# Altium footprint library ALTIUM_LAB07.PcbLib: 1 footprints
Each footprint in its own frame and in the unit in brackets; x right, y up, seen from the top. Pads: shape width x height; smd on the part's side, far side on the other; paste and mask are expansions set on the pad; w line width, h text height; cw(c..) or ccw(c..) is an arc to the next point about the centre after c.
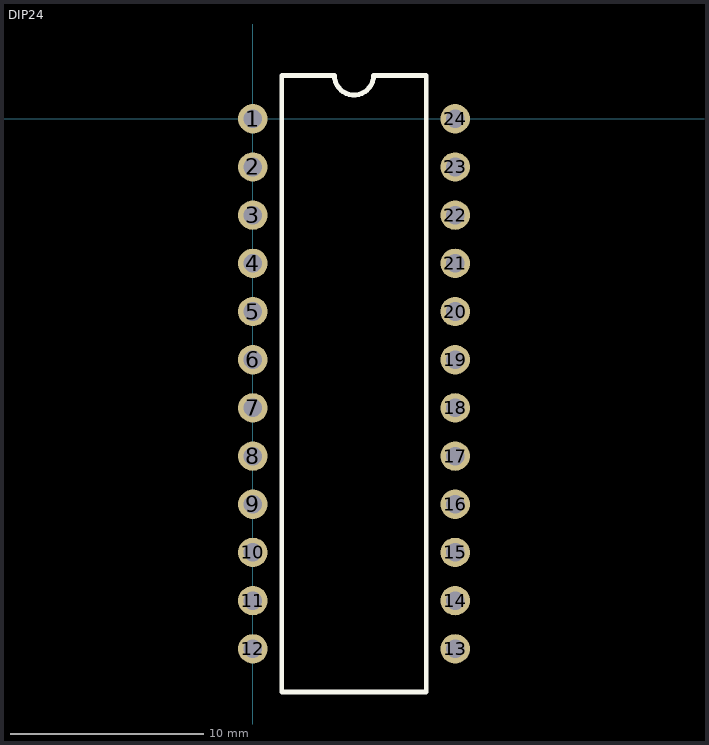
[diagram p0: the footprint, top view; thin cyan lines are the x and y axes]

## DIP24 [mil]
pads (24):
  round 60 hole 38: 1(0,0) 2(0,-98.43) 3(0,-196.85) 4(0,-295.28) 5(0,-393.7) 6(0,-492.13) 7(0,-590.55) 8(0,-688.98) 9(0,-787.4) 10(0,-885.83) 11(0,-984.25) 12(0,-1082.68) 13(413.39,-1082.68) 14(413.39,-984.25) 15(413.39,-885.83) 16(413.39,-787.4) 17(413.39,-688.98) 18(413.39,-590.55) 19(413.39,-492.13) 20(413.39,-393.7) 21(413.39,-295.28) 22(413.39,-196.85) 23(413.39,-98.43) 24(413.39,0)
Top Overlay:
  lines w10: 59.06,-1171.26 59.06,88.58 166.69,88.58 ccw(c206.69,88.58) 246.69,88.58 354.33,88.58 354.33,-1171.26 59.06,-1171.26